# EAGLE library part CAY16-470J4 (library Traficon)
Resistor net Bourns RS reference: 241-9579
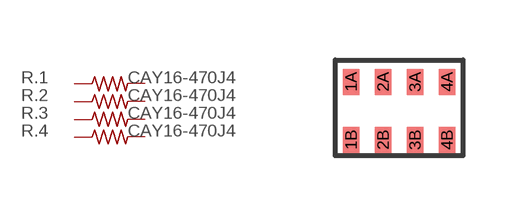
[diagram p96: symbol with the pads of CAY16; footprint CAY16]

Designator prefix R; gates .1=R_US .2=R_US .3=R_US .4=R_US

## CAY16-470J4  [CAY16]
1A  .1:1A  pas
1B  .1:1B  pas
2A  .2:1A  pas
2B  .2:1B  pas
3A  .3:1A  pas
3B  .3:1B  pas
4A  .4:1A  pas
4B  .4:1B  pas

## Footprint CAY16 (pad centres in mm)
smd 0.42 x 0.65: 1A 0,1.45; 1B 0,0; 2A 0.8,1.45; 2B 0.8,0; 3A 1.6,1.45; 3B 1.6,0; 4A 2.4,1.45; 4B 2.4,0